# Altium footprint library molex_pcb_headers.PcbLib: 3 footprints
Each footprint in its own frame and in the unit in brackets; x right, y up, seen from the top. Pads: shape width x height; smd on the part's side, far side on the other; paste and mask are expansions set on the pad; w line width, h text height; cw(c..) or ccw(c..) is an arc to the next point about the centre after c.
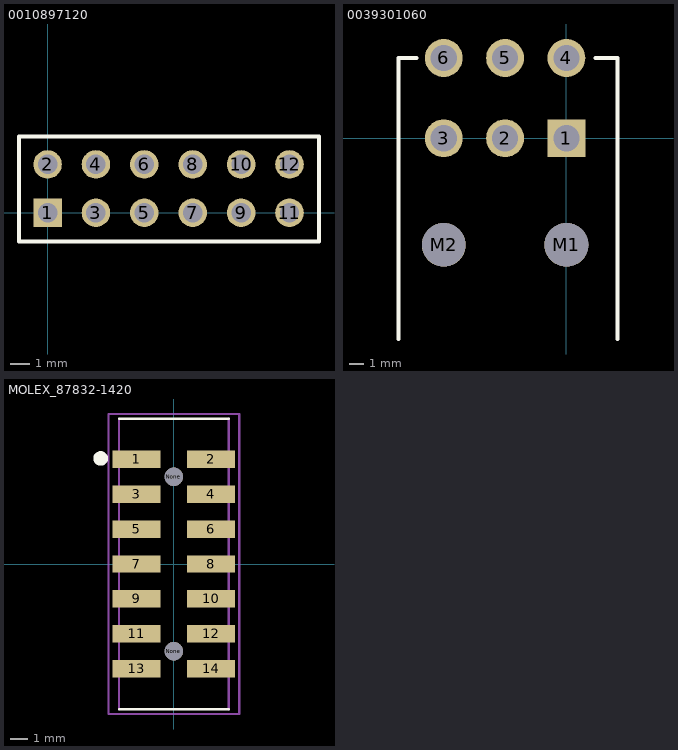
[diagram p0: the footprints below, top view; thin cyan lines are the x and y axes]

## 0010897120 [mm] "CONN HEADER VERT 12POS 2.54MM"
pads (12):
  rect 1.5x1.5 hole 1.02: 1(0,0)
  round 1.5 hole 1.02: 2(0,2.54) 3(2.54,0) 4(2.54,2.54) 5(5.08,0) 6(5.08,2.54) 7(7.62,0) 8(7.62,2.54) 9(10.16,0) 10(10.16,2.54) 11(12.7,0) 12(12.7,2.54)
Top Overlay:
  lines w0.2: -1.5,-1.5 14.25,-1.5 14.25,4 -1.5,4 -1.5,-1.5
3D body "010897120.stp": height 8.74, standoff -2.36, extent -1.25,-1.25 13.99,3.83

## 0039301060 [mm]
height 9.6
pads (8):
  rect 2.6x2.6 hole 1.8: 1(0,0)
  round 2.6 hole 1.8: 2(-4.2,0) 3(-8.4,0) 4(0,5.5) 5(-4.2,5.5) 6(-8.4,5.5)
  round 3 hole 3 unplated: M1(0,-7.3) M2(-8.4,-7.3)
Top Overlay:
  lines w0.254: -11.5,-13.75 -11.5,5.5 -10.25,5.5 ; 2,5.5 3.5,5.5 3.5,-13.75
3D body "039301060.stp": height 12.4, standoff -2.6, extent -11.1,-13.835 3.1,6.1

## MOLEX_87832-1420 [mm]
height 7.6
pads (16):
  rect 2.75x1 smd: 1(-2.13,6) 2(2.13,6) 3(-2.13,4) 4(2.13,4) 5(-2.13,2) 6(2.13,2) 7(-2.13,0) 8(2.13,0) 9(-2.13,-2) 10(2.13,-2) 11(-2.13,-4) 12(2.13,-4) 13(-2.13,-6) 14(2.13,-6)
  round 1.05 hole 1.05 unplated: None(0,-5) None(0,5)
Top Overlay:
  circle w0.61: c-4.2,6.05 r0.11
  lines w0.127: -3.15,-8.325 3.15,-8.325 ; -3.15,8.325 3.15,8.325
Top Fab Assembly - M13:
  lines w0.127: -3.15,-8.325 -3.15,8.325 -3.15,-8.325 ; 3.15,-8.325 3.15,8.325 3.15,-8.325
Top Courtyard - M15:
  lines w0.127: -3.75,-8.6 -3.75,8.6 3.75,8.6 3.75,-8.6 -3.75,-8.6
3D body "878321420.stp": height 7.2, standoff -1.4, extent -3.15,-8.325 3.15,8.325